# Altium footprint library Pinpads_Series_PCB_Library_ARAF.PcbLib: 2 footprints
Each footprint in its own frame and in the unit in brackets; x right, y up, seen from the top. Pads: shape width x height; smd on the part's side, far side on the other; paste and mask are expansions set on the pad; w line width, h text height; cw(c..) or ccw(c..) is an arc to the next point about the centre after c.
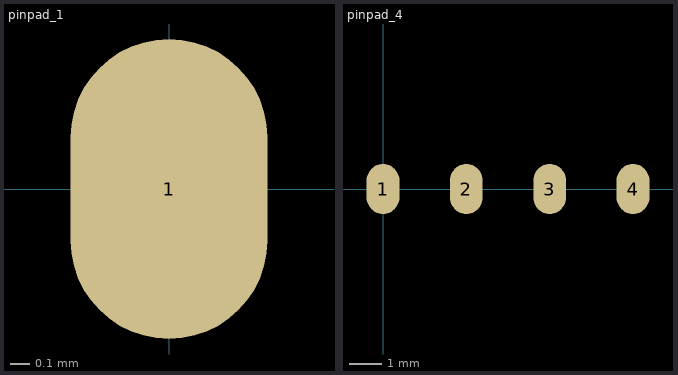
[diagram p0: the footprints below, top view; thin cyan lines are the x and y axes]

## pinpad_1 [mil]
pads (1):
  oval 39.37x60 smd: 1(0,0)

## pinpad_4 [mil]
pads (4):
  oval 39.37x60 smd: 1(0,0) 2(100,0) 3(200,0) 4(300,0)